# Altium schematic symbol library Video.SchLib: 1 symbol
Pins are listed as number, name and electrical type; pins without a type are passive.

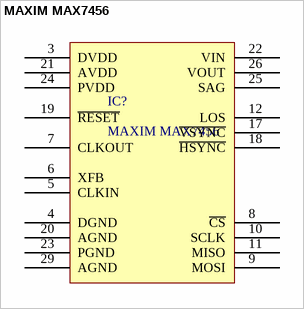
[diagram p0: symbol MAXIM MAX7456]

## MAXIM MAX7456
designator IC?
Single-Channel Monochrome On-Screen Display OSD with Integrated EEPROM
pins: 3 DVDD "Desc1", 4 DGND "Desc1", 5 CLKIN "Desc1", 6 XFB "Desc1", 7 CLKOUT "Desc1", 8 ~{CS} "Desc1", 9 MOSI "Desc1", 10 SCLK "Desc1", 11 MISO "Desc1", 12 LOS "Desc1", 17 ~{VSYNC} "Desc1", 18 ~{HSYNC} "Desc1", 19 ~{RESET} "Desc1", 20 AGND "Desc1", 21 AVDD "Desc1", 22 VIN "Desc1", 23 PGND "Desc1", 24 PVDD "Desc1", 25 SAG "Desc1", 26 VOUT "Desc1", 29 AGND "Desc1"